# Altium schematic symbol library PCB_Project.SCHLIB: 10 symbols
Pins are listed as number, name and electrical type; pins without a type are passive.

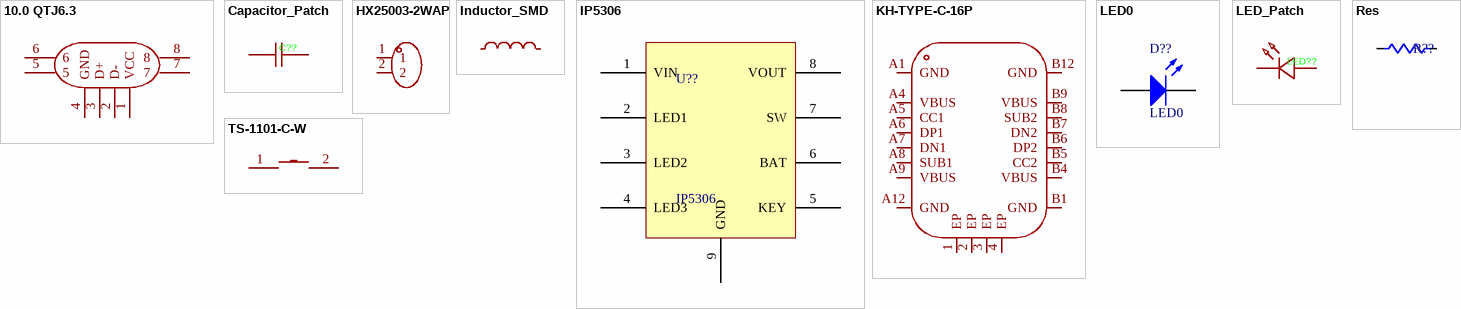
[diagram p0: symbols 10.0 QTJ6.3 to TS-1101-C-W]

## 10.0 QTJ6.3
designator USB??  (value not drawn)
Manufacturer: SHOU HAN(首韩); Add into BOM: yes; Connector Type: Type-A; Gender: 母; Number of Contacts: 4P; Number of Ports: 1; Current Rating - Power (Max): 1.5A; Rated Voltage (Max): 30V; Connect-Disconnect Life: 5千次; Core Colour: 黑色; Symbol: 10.0 QTJ6.3; Device: 10.0 QTJ6.3; LCSC Part Name: Type-A 母 卧贴; Supplier Part: C404966; Manufacturer Part: 10.0 QTJ6.3; Supplier Footprint: SMD; JLCPCB Part Class: Extended Part; Datasheet: https://atta.szlcsc.com/upload/public/pdf/source/20241125/0CEA21D77C128715D5877707589FFAD8.pdf; Supplier: LCSC; Convert to PCB: yes; Standard: USB 2.0; Mounting Style: 卧贴; Supplementary Features: -; Center Height: -; Length: 10mm; Operating Temperature Range: -25℃~+85℃
footprint USB-A-SMD_10.0-QTJ6.3
3D model USB-A-SMD_10.0-QTJ6.3
pins: 1 VCC, 2 D-, 3 D+, 4 GND, 5, 6, 7, 8

## Capacitor_Patch
designator C??
0805; Manufacturer: SAMSUNG(三星); Symbol: CL21A106KAYNNNE; Device: CL21A106KAYNNNE_C15850; Add into BOM: yes; Value: 10uF; Tolerance: ±10%; Voltage Rated: 25V; Temperature Coefficient: X5R; LCSC Part Name: 10uF ±10% 25V; Supplier Part: C15850; Manufacturer Part: CL21A106KAYNNNE; Supplier Footprint: 0805; JLCPCB Part Class: Basic Part; Datasheet: https://atta.szlcsc.com/upload/public/pdf/source/20160218/1457707763339.pdf; Supplier: LCSC; Convert to PCB: yes
footprint C0805
3D model C0805_L2.0-W1.3-H1.3
pins: 1, 2

## HX25003-2WAP
designator CN??  (value not drawn)
Manufacturer: HX(红星); Add into BOM: yes; Pins Structure: 1x2P; Pitch: 2.5mm; Reference Series: XH; Number of PINs Per Row: 2; Symbol: HX25003-2WAP; Device: HX25003-2WAP; LCSC Part Name: 1x2P 间距:2.5mm 弯插 系列:XH; Supplier Part: C442326; Manufacturer Part: HX25003-2WAP; Supplier Footprint: 弯插,P=2.5mm; JLCPCB Part Class: Extended Part; Datasheet: https://atta.szlcsc.com/upload/public/pdf/source/20191028/C442341_CB026E8ECE589085FA4A025D9CD8B44B.pdf; Supplier: LCSC; Convert to PCB: yes; Mounting Style: 弯插; Number of Pins: 2P; Number of Rows: 1; Row Spacing: -; Current Rating (Max): -; Operating Temperature Range: -
footprint CONN-TH_2P-P2.50_HX25003-2WAP
3D model CONN-TH_2P-P2.50_HX25003-2WAP
pins: 1, 2

## Inductor_SMD
designator U??, comment 1uH  (value not drawn)
Manufacturer: XR(祥如); Symbol: XR0420-1R0M; Add into BOM: yes; Tolerance: ±20%; Current Rating: 6A; Current - Saturation(Isat): 7A; DC Resistance(DCR): 27mΩ; Device: XR0420-1R0M; LCSC Part Name: 1uH ±20% 7A; Supplier Part: C5307587; Manufacturer Part: XR0420-1R0M; Supplier Footprint: SMD,0420; JLCPCB Part Class: Extended Part; Datasheet: https://atta.szlcsc.com/upload/public/pdf/source/20240328/238362994E593F0E82794C6287AEB16E.pdf; Supplier: LCSC; Convert to PCB: yes; Value: 1uH; Type: 一体成型电感
footprint IND-SMD_L4.4-W4.2
3D model IND-SMD_L4.2-W4.4-H2.0
pins: 1, 2

## IP5306
designator U??
IC
pins: 1 VIN, 2 LED1, 3 LED2, 4 LED3, 5 KEY, 6 BAT, 7 SW, 8 VOUT, 9 GND

## KH-TYPE-C-16P
designator USB???  (value not drawn)
Manufacturer: kinghelm(金航标); Add into BOM: yes; Connector Type: Type-C; Gender: 母; Number of Ports: 1; Number of Contacts: 16P; Current Rating - Power (Max): 3A; Symbol: KH-TYPE-C-16P; Device: KH-TYPE-C-16P; LCSC Part Name: Type-C 母 卧贴; Supplier Part: C709357; Manufacturer Part: KH-TYPE-C-16P; Supplier Footprint: SMD; JLCPCB Part Class: Extended Part; Datasheet: https://atta.szlcsc.com/upload/public/pdf/source/20200911/C709357_AA8DCEB38BB20E3035A7ED7AE7667837.pdf; Supplier: LCSC; Convert to PCB: yes; Standard: -; Mounting Style: 卧贴; Operating Temperature Range: -40℃~+85℃
footprint USB-C-SMD_KH-TYPE-C-16P
3D model USB-C-SMD_KH-TYPE-C-16P
pins: 1 EP, 2 EP, 3 EP, 4 EP, A1 GND, A4 VBUS, A5 CC1, A6 DP1, A7 DN1, A8 SUB1, A9 VBUS, A12 GND, B1 GND, B4 VBUS, B5 CC2, B6 DP2, B7 DN2, B8 SUB2, B9 VBUS, B12 GND

## LED0
designator D??
Typical INFRARED GaAs LED; Published: 8-Jun-2000; LatestRevisionDate: 08-Jul-2005; LatestRevisionNote: Mech Layer 1 removed.; PackageReference: LED-0; Publisher: Altium Limited; PackageDescription: LED; 2 Leads
simulation model LED0 (Diode)
footprint PCBComponent_1
pins: 1 A, 2 K

## LED_Patch
designator LED??
0805; Manufacturer: XINGLIGHT(成兴光); Symbol: XL-2012UGC; Add into BOM: yes; Illumination Color: 翠绿色; Voltage - Forward(Vf): 3.2V; Power(Watts): 70mW; Forward Current: 20mA; Wavelength - Dominant: 515nm~535nm; Peak Wavelength: 525nm; Lens Color: 无色透明透镜; Luminous Intensity: 750mcd; Viewing Angle: 120°; Mounting Sytle: 正贴; Device: XL-2012UGC; LCSC Part Name: XL-2012UGC; Supplier Part: C965815; Manufacturer Part: XL-2012UGC; JLCPCB Part Class: Extended Part; Datasheet: https://atta.szlcsc.com/upload/public/pdf/source/20250225/603248BA8F596867ADF5B11D7DFBCB79.pdf; Supplier: LCSC; Convert to PCB: yes; Color Temperature: -
footprint PCBComponent_1
pins: 1 K, 2 A

## Res
designator R??
Published: 24-Mar-1999; LatestRevisionDate: 29-May-2009; LatestRevisionNote: IPC-7351 Footprint Added.; PackageVersion: Mar-2003; PackageReference: 6-0805; Publisher: Altium Limited; PackageDescription: Chip Resistor 0805 Case Size; Code_IPC: RESC2012
footprint 6-0805_N (Chip Resistor, Body 2.0x1.2mm, IPC Medium Density)
footprint 6-0805_L (Chip Resistor, Body 2.0x1.2mm, IPC High Density)
footprint 6-0805_M (Chip Resistor, Body 2.0x1.2mm, IPC Low Density)
pins: 1, 2

## TS-1101-C-W
designator SW??  (value not drawn)
Manufacturer: XKB Connectivity(中国星坤); Add into BOM: yes; Circuit: 单刀单掷; Actuator Style: 矩形按钮; Operating Force: 260gf; Switch Length: 6mm; Switch Width: 3.6mm; Switch Height: 2.5mm; Strike Gundam: 不带; Contact Current: 50mA; Voltage Rating (DC): 12V; Actuator/Cap Color: 白色带淡绿; With Lamp: 无; Mechanical Life: 5万次; Symbol: TS-1101-C-W; Device: TS-1101-C-W; LCSC Part Name: 6*3.6*2.5mm 立贴 轻触开关; Supplier Part: C318938; Manufacturer Part: TS-1101-C-W; Supplier Footprint: SMD; JLCPCB Part Class: Extended Part; Datasheet: https://atta.szlcsc.com/upload/public/pdf/source/20200227/C318938_C2E53B1EEDE37D980A33616AC086DE53.pdf; Supplier: LCSC; Convert to PCB: yes; Mounting Style: 立贴; Voltage Rating (AC): -; Power Rating: -; Insulation Resistance: -; IP Rating: -; Pin Style: -; Operating Temperature: -30℃~+85℃
footprint SW-SMD_L6.0-W3.3-LS8.0
3D model SW-SMD_L6.0-W3.3-H5-LS8.0
pins: 1, 2